# Altium schematic symbol library PI_Cam.SchLib: 1 symbol
Pins are listed as number, name and electrical type; pins without a type are passive.

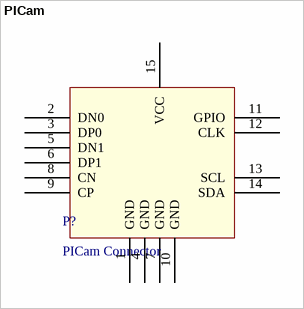
[diagram p0: symbol PICam]

## PICam
designator P?, comment PICam Connector
Raspberry PI Camera Connector (TI Connectivity AMP); Manufacturer Part No.: 1-1734248-5; Digi-Key Part No.: A101418CT-ND
footprint TE AMP Connector
pins: 1 GND, 2 DN0, 3 DP0, 4 GND, 5 DN1, 6 DP1, 7 GND, 8 CN, 9 CP, 10 GND, 11 GPIO, 12 CLK, 13 SCL, 14 SDA, 15 VCC